# Altium integrated library DC-DC switching regulators.IntLib: 12 symbols
Pins are listed as number, name and electrical type; pins without a type are passive.

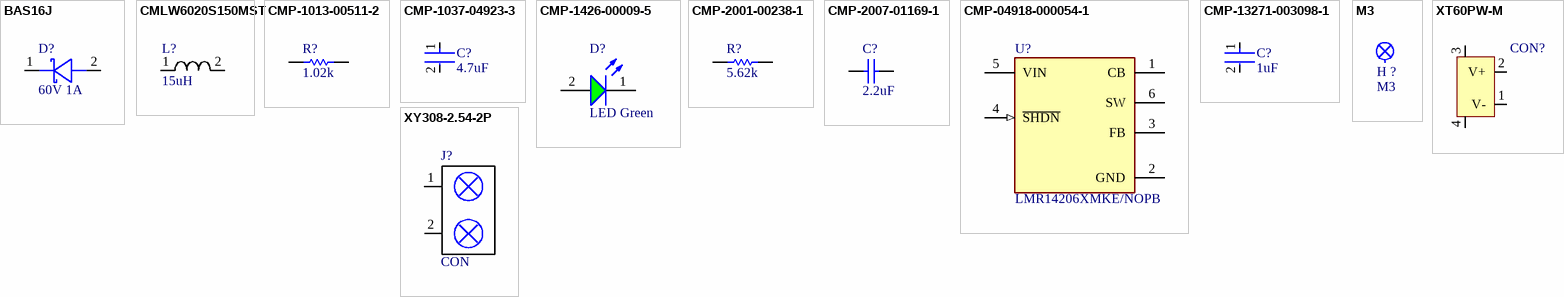
[diagram p0: symbols BAS16J to XY308-2.54-2P]

## BAS16J
designator D?, comment 60V 1A
60V Single 700mV@1A 1A SOD-323 Schottky Barrier Diodes (SBD) ROHS; JLCPCB Part #: C7420327; ComponentLink1Description: JCLPCB; ComponentLink1URL: https://jlcpcb.com/partdetail/Hongjiacheng-B16WS/C7420327; ComponentLink2Description: Datasheet; ComponentLink2URL: https://wmsc.lcsc.com/wmsc/upload/file/pdf/v2/lcsc/2308281514_hongjiacheng-B16WS_C7420327.pdf; Package: SOD-323
footprint SODFL2512X80N
pins: 1 K, 2 A

## CMLW6020S150MST
designator L?, comment 15uH
1.2A 15uH Shielded Power Inductors ±20% SMD,6x6mm Power Inductors ROHS; MFR.Part #: CMLW6020S150MST; JLCPCB Part #: C431352; ComponentLink1Description: JLCPCB Link; ComponentLink1URL: https://jlcpcb.com/partdetail/Cybermax-CMLW6020S150MST/C431352; ComponentLink2Description: Datasheet; ComponentLink2URL: https://wmsc.lcsc.com/wmsc/upload/file/pdf/v2/lcsc/2304140030_Cybermax-CMLW6020S150MST_C431352.pdf; Package: SMD,6x6mm
footprint CMLW6020S150MST
pins: 1, 2

## CMP-1013-00511-2
designator R?, comment 1.02k
125mW Thick Film Resistors 150V ±100ppm/℃ ±1% 1.02kΩ 0805 Chip Resistor - Surface Mount ROHS; MFR.Part #: 0805W8F1021T5E; JLCPCB Part #: C17369; ComponentLink1Description: Datasheet; ComponentLink1URL: https://wmsc.lcsc.com/wmsc/upload/file/pdf/v2/lcsc/2206010216_UNI-ROYAL-Uniroyal-Elec-0805W8F1021T5E_C17369.pdf; ComponentLink2Description: JLCPCB; ComponentLink2URL: https://jlcpcb.com/partdetail/18057-0805W8F1021T5E/C17369; Package: 0805
footprint RESC2013X50X30LL20T20 (Chip Resistor, 2-Leads, Body 2.00x1.25mm, IPC High Density)
footprint RESC2013X50X30NL20T20 (Chip Resistor, 2-Leads, Body 2.00x1.25mm, IPC Medium Density)
footprint RESC2013X50X30ML20T20 (Chip Resistor, 2-Leads, Body 2.00x1.25mm, IPC Low Density)
pins: 1, 2
1 alternate drawing of the same symbol

## CMP-1037-04923-3
designator C?, comment 4.7uF
50V 4.7uF X7R ±10% 1206 Multilayer Ceramic Capacitors MLCC - SMD/SMT ROHS; MFR.Part #: CL31B475KBHNNNE; Height: 1.6mm; Voltage: 50V; Capacitance: 4.7uF; Lead Free: Lead Free; Max Operating Temperature: 125°C; Packaging: Tape and Reel; REACH SVHC: No SVHC; Voltage Rating: 50V; Mount: Surface Mount; Termination: SMD/SMT; Tolerance: 10%; Case/Package: 1206; Material: Ceramic; Depth: 1.6mm; Length: 3.2mm; Case Code (Metric): 3216; Voltage Rating (DC): 50V; Case Code (Imperial): 1206; Radiation Hardening: No; Width: 0.063inch; Thickness: 0.071inch; Package Quantity: 2000; Min Operating Temperature: -55°C; Dielectric: X7R; JLCPCB Part #: C51205; ComponentLink1Description: Datasheet; ComponentLink1URL: https://wmsc.lcsc.com/wmsc/upload/file/pdf/v2/lcsc/2304140030_Samsung-Electro-Mechanics-CL31B475KBHNNNE_C51205.pdf; ComponentLink2Description: JLCPCB; ComponentLink2URL: https://jlcpcb.com/partdetail/52218-CL31B475KBHNNNE/C51205; Package: 1206
footprint FP-GRM31C-0_2-e0_3_0_8-IPC_C
footprint FP-GRM31C-0_2-e0_3_0_8-IPC_B
footprint FP-GRM31C-0_2-e0_3_0_8-IPC_A
footprint FP-GRM31C-0_2-e0_3_0_8-MFG
pins: 1, 2

## CMP-1426-00009-5
designator D?, comment LED Green
Emerald 0805 Light Emitting Diodes (LED) ROHS; NexarPartId: 29717783; MFR.Part #: KT-0805G; Dominant Wavelength: 570nm; Lens Style: Clear, Rectangular; Test Current: 20mA; Max Junction Temperature (Tj): 95°C; Max Reverse Voltage (DC): 5V; Forward Voltage: 2V; Forward Current: 100mA; Viewing Angle: 140°; Power Dissipation: 72mW; Peak Wavelength: 572nm; Luminous Intensity: 40mcd; Color: Green; Max Operating Temperature: 85°C; Case/Package: 0805; Case Code (Metric): 2012; RoHS: Compliant; Packaging: Tape and Reel; Min Operating Temperature: -40°C; Width: 1.25mm; Wavelength: 570nm; Mount: Surface Mount; Length: 2mm; REACH SVHC: Unknown; Height: 700µm; Case Code (Imperial): 0805; Reverse Voltage: 5V; JLCPCB Part #: C2297; ComponentLink1Description: JLCPCB; ComponentLink1URL: https://jlcpcb.com/partdetail/Hubei_KentoElec-KT0805G/C2297; ComponentLink2Description: datasheet; ComponentLink2URL: https://wmsc.lcsc.com/wmsc/upload/file/pdf/v2/lcsc/1806151820_Hubei-KENTO-Elec-KT-0805G_C2297.pdf; Package: 0805
footprint WL-SMCW_0805_150080xx75000 (WL-SMCW SMT Mono-Color Chip LED Waterclear)
pins: 1 K, 2 A

## CMP-2001-00238-1
designator R?, comment 5.62k
125mW Thick Film Resistors ±100ppm/℃ ±1% 5.62kΩ 0805 Chip Resistor - Surface Mount ROHS; MFR.Part #: CR0805-FX-5621ELF; JLCPCB Part #: C204581; ComponentLink1Description: Datasheet; ComponentLink1URL: https://wmsc.lcsc.com/wmsc/upload/file/pdf/v2/lcsc/2304140030_BOURNS-CR0805-FX-5621ELF_C204581.pdf; ComponentLink2Description: JCLPCB; ComponentLink2URL: https://jlcpcb.com/parts/componentSearch?searchTxt=5.62k%20resistor; Package: 0805
footprint RESC2013X70X40ML20T20 (Chip Resistor, 2-Leads, Body 2.00x1.25mm, IPC Low Density)
footprint RESC2013X70X40LL20T20 (Chip Resistor, 2-Leads, Body 2.00x1.25mm, IPC High Density)
footprint RESC2013X70X40NL20T20 (Chip Resistor, 2-Leads, Body 2.00x1.25mm, IPC Medium Density)
pins: 1, 2
1 alternate drawing of the same symbol

## CMP-2007-01169-1
designator C?, comment 2.2uF
25V 2.2uF X7R ±10% 0805 Multilayer Ceramic Capacitors MLCC - SMD/SMT ROHS; Manufacturer: Samsung Electro-Mechanics; Part Number: C0805C225K4RAC7800; JLCPCB Part #: C19110; ComponentLink1Description: Datasheet; ComponentLink1URL: https://wmsc.lcsc.com/wmsc/upload/file/pdf/v2/lcsc/2304140030_Samsung-Electro-Mechanics-CL21B225KAFNNNE_C19110.pdf; ComponentLink2Description: JLCPCB; ComponentLink2URL: https://jlcpcb.com/partdetail/19814-CL21B225KAFNNNE/C19110; Package: 0805
footprint CAPC2013X145X50LL20T25 (Chip Capacitor, 2-Leads, Body 2.00x1.25mm, IPC High Density)
footprint CAPC2013X145X50NL20T25 (Chip Capacitor, 2-Leads, Body 2.00x1.25mm, IPC Medium Density)
footprint CAPC2013X145X50ML20T25 (Chip Capacitor, 2-Leads, Body 2.00x1.25mm, IPC Low Density)
pins: 1, 2
1 alternate drawing of the same symbol

## CMP-04918-000054-1
designator U?, comment LMR14206XMKE/NOPB
IC REG BUCK ADJ 600MA TSOT23-6; Manufacturer: Texas Instruments; Nominal Supply Current: 1.3-1.35mA; Output Type: AdjustableProgrammable; Max Supply Voltage: 42V; Number Of Outputs: 1; Switching Frequency: 1.25MHz; Standoff Height: 0mm; Min Supply Voltage: 4.5V; Max Junction Temp: +125°C; Max Duty Cycle: 87%; Output Current: 0.6A; Output Voltage: 0.765-34V; Device Class L1: Integrated Circuits (ICs); Automotive: No; Manufacturer Part Number: LMR14206XMKE/NOPB; Switching Topology: Buck; Digikey Description: IC REG BUCK ADJ 600MA TSOT23-6; Temperature Range Low: -40°C; Device Class L2: Power Management ICs; Package: TSOT-23-6; Temperature: -40°C to +125°C; Lead Free: Yes; Temperature Range High: +125°C; Height: 1.1mm; ComponentLink2URL: http://www.ti.com/lit/ds/symlink/lmr14206.pdf; RoHS: TRUE; Mouser Description: Voltage Regulators - Switching Regulators SIMPLE SWITCHER 42 Vin,0.6A SD Vltg Reg; Category: IC; Ipc Land Pattern Name: SOT95P280X110-6; Device Class L3: Voltage Regulators - Switching; ComponentLink2Description: Datasheet; Octopart: https://octopart.com/lmr14206xmke%2Fnopb-texas+instruments-24815773; JLCPCB Part #: C2071127; ComponentLink3Description: JLCPCB; ComponentLink3URL: https://jlcpcb.com/parts/componentSearch?searchTxt=LMR14206XMKE%2FNOPB
footprint FP-DDC0006A-MFG
footprint FP-DDC0006A-IPC_C
footprint FP-DDC0006A-IPC_B
footprint FP-DDC0006A-IPC_A
pins: 1 CB, 2 GND (power), 3 FB, 4 ~{SHDN} (in), 5 VIN (power), 6 SW

## CMP-13271-003098-1
designator C?, comment 1uF
50V 1uF X7R ±10% 0805 Multilayer Ceramic Capacitors MLCC - SMD/SMT ROHS; Voltage Rating: 16V; Case Code (Metric): 2012; Width: 0.049inch; Thickness: 0.053inch; Max Operating Temperature: 125°C; Case Code (Imperial): 0805; Height: 1.25mm; Length: 2mm; Case/Package: 0805; Lead Free: Lead Free; Mount: Surface Mount; Capacitance: 1uF; Tolerance: 10%; Voltage Rating (DC): 16V; Min Operating Temperature: -55°C; Contact Plating: Tin; Depth: 1.25mm; Packaging: Tape and Reel; Package Quantity: 1; Voltage: 16V; Dielectric: X7R; Radiation Hardening: No; ComponentLink1Description: Datasheet; ComponentLink1URL: https://wmsc.lcsc.com/wmsc/upload/file/pdf/v2/lcsc/2304140030_Samsung-Electro-Mechanics-CL21B105KBFNNNE_C28323.pdf; JLCPCB Part #: C28323; ComponentLink2Description: JCLPCB; ComponentLink2URL: https://jlcpcb.com/partdetail/29074-CL21B105KBFNNNE/C28323; Package: 0805
footprint FP-CL21-IPC_A
footprint FP-CL21-IPC_B
footprint FP-CL21-IPC_C
pins: 1, 2

## M3
designator H ?
M3 drill hole
footprint M3 (M3 drill hole)
pins: 1

## XT60PW-M
designator CON?  (value not drawn)
Power Connectors ROHS; JLCPCB Part #: C98732; MFR.Part #: XT60PW-M; ComponentLink1Description: JLCPCB; ComponentLink1URL: https://jlcpcb.com/partdetail/Changzhou_AmassElec-XT60PWM/C98732; ComponentLink2Description: Datasheet; ComponentLink2URL: https://wmsc.lcsc.com/wmsc/upload/file/pdf/v2/lcsc/1810251313_Changzhou-Amass-Elec-XT60PW-M_C98732.pdf
footprint XT60PW-M
pins: 1 V-, 2 V+, 3, 4

## XY308-2.54-2P
designator J?, comment CON
1x2P 6A 150V Green 18~26 Straight 2.54mm 1 1 2 Plugin,P=2.54mm Screw terminal ROHS; MFR.Part #: XY308-2.54-2P; JLCPCB Part #: C557685; ComponentLink1Description: Datasheet; ComponentLink1URL: https://wmsc.lcsc.com/wmsc/upload/file/pdf/v2/lcsc/2304140030_Ningbo-Xinlaiya-Elec--XY308-2-54-2P_C557685.pdf; ComponentLink2Description: JLCPCB; ComponentLink2URL: https://jlcpcb.com/partdetail/Ningbo_Xinlaiya_elec-XY308_2_542P/C557685
footprint XY308-2.54-2P (1x2P 6A 150V Green 18~26 Straight 2.54mm 1 1 2 Plugin,P=2.54mm Screw terminal ROHS)
pins: 1, 2